# Altium schematic symbol library STM32F746_AppBoard.SCHLIB: 66 symbols
Pins are listed as number, name and electrical type; pins without a type are passive.

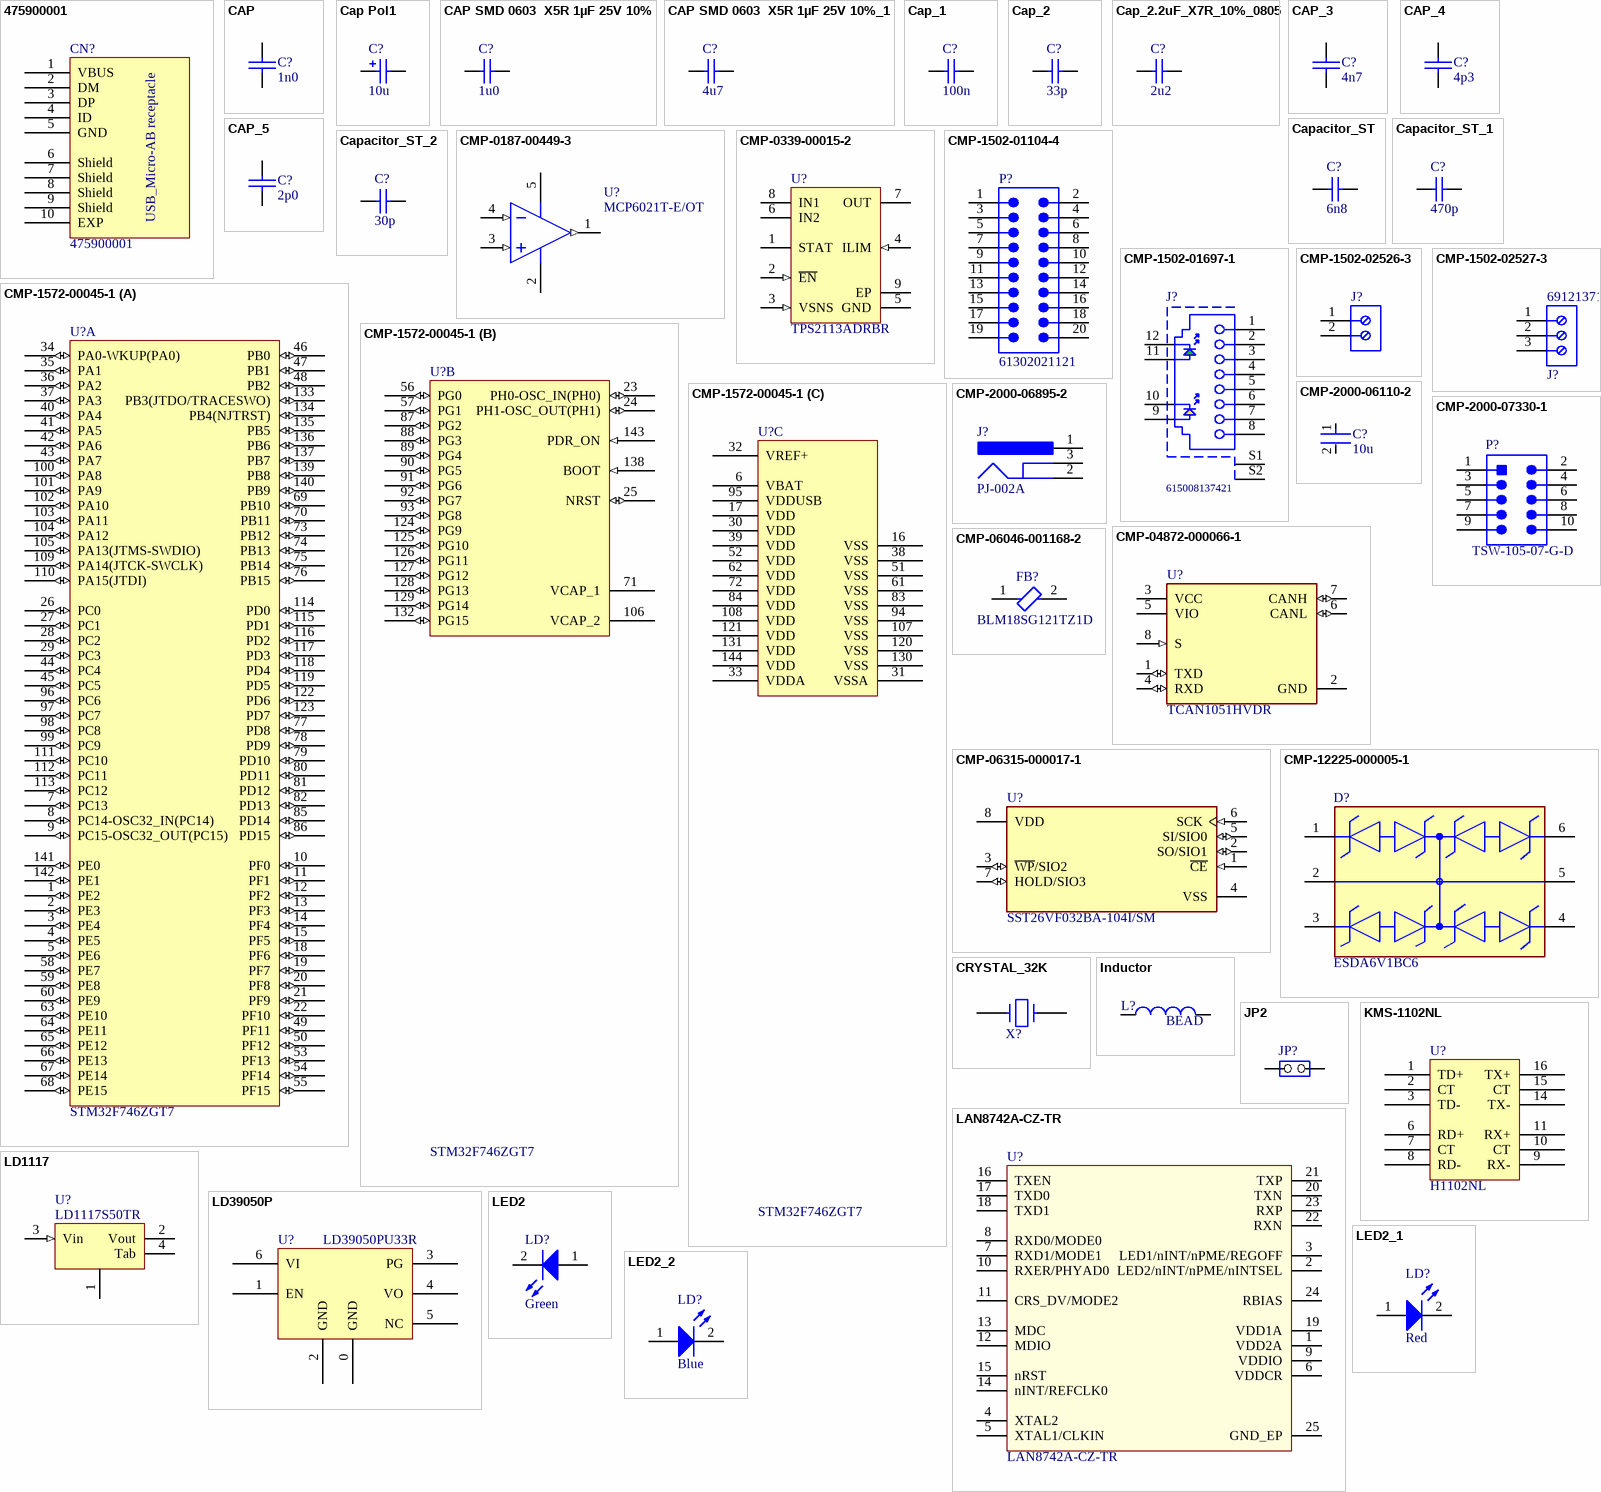
[diagram p0: symbols 475900001 to LED2_2]

## 475900001
designator CN?
footprint Model Name (Footprint not found)
footprint MOLEX_47590001 (Footprint not found)
pins: 1 VBUS, 2 DM, 3 DP, 4 ID, 5 GND, 6 Shield, 7 Shield, 8 Shield, 9 Shield, 10 EXP
text: USB_Micro-AB receptacle

## CAP
designator C?, comment 1n0
Capacitor; Voltage: 50V; Dielectric: C0G; Value: 1n0
footprint 0603 (Footprint not found)
footprint 0603C
pins: 1, 2
2 alternate drawings of the same symbol

## Cap Pol1
designator C?, comment 10u
Tantalum Capacitor; Voltage Rating: 25V; Published: 8-Jun-2000; Revision: July-2002: Re-released for DXP Platform.; Publisher: Altium Limited; Value: 10u
simulation model CAP (Capacitor)
signal-integrity model C200M
footprint 3528 (Footprint not found)
footprint TAN-B
footprint TAN-A
pins: 1, 2

## CAP SMD 0603  X5R 1µF 25V 10%
designator C?, comment 1u0
Capacitor; Voltage Rating: 25V; Tolerance: 10%; Dielectric: X5R; Manufacturer: *; Manufacturer P/N: *; Order code Farnell: 1288202RL; Value: 1u0; Power: *; Temperature  Factor: *; Temperature Max: +125°C; Temperature Min: -55°C; STS Code: *
footprint 0603C (Footprint not found)
3D model 0603_0_0000_R (PCB3D Model)
simulation model Capacitor
signal-integrity model Capacitor
pins: 1, 2

## CAP SMD 0603  X5R 1µF 25V 10%_1
designator C?, comment 4u7
Capacitor; Rated voltage: 25V; Tolerance: 10%; Dielectric: X5R; Manufacturer: *; Manufacturer P/N: *; Order code Farnell: 1288202RL; Value: 4u7; Power: *; Temperature  Factor: *; Temperature Max: +125°C; Temperature Min: -55°C; STS Code: *
footprint 0603C (Footprint not found)
3D model 0603_0_0000_R (PCB3D Model)
simulation model Capacitor
signal-integrity model Capacitor
pins: 1, 2

## Cap_1
designator C?, comment 100n
Capacitor; Dielectric: X7R; Published: 8-Jun-2000; Revision: July-2002: Re-released for DXP Platform.; Publisher: Altium Limited; Value: 100n
simulation model CAP (Capacitor)
signal-integrity model Cap
footprint 0603 (Footprint not found)
footprint 0603C (Footprint not found)
pins: 1, 2

## Cap_2
designator C?, comment 33p
Capacitor; Dielectric: C0G; Published: 8-Jun-2000; Revision: July-2002: Re-released for DXP Platform.; Publisher: Altium Limited; Value: 33p; Supplier 1: DigiKey; Supplier Part Number 1: 720-1913-1-ND
simulation model CAP (Capacitor)
signal-integrity model Cap
footprint 0603 (Footprint not found)
footprint 0603C (Footprint not found)
pins: 1, 2

## Cap_2.2uF_X7R_10%_0805
designator C?, comment 2u2
Capacitor,2.2uF,16V, X7R,10%,0805,YAGEO; Manuf_Part_1: CC0805KKX7R7BB225; Revision: July-2002: Re-released for DXP Platform.; Value: 2u2; Order: CC0805KKX7R7BB225; Manuf_1: YAGEO; Dielectric: X7R
simulation model CAP (Capacitor)
signal-integrity model Cap
footprint 0805C
footprint TAN-A
pins: 1, 2

## CAP_3
designator C?, comment 4n7
Capacitor; Dielectric: C0G; Value: 4n7; Supplier 1: Arrow Electronics; Supplier Part Number 1: C0603C472K5GACTU
footprint 0603 (Footprint not found)
footprint 0603C
pins: 1, 2
2 alternate drawings of the same symbol

## CAP_4
designator C?, comment 4p3
Capacitor; Dielectric: C0G; Value: 4p3
footprint 0603 (Footprint not found)
footprint 0603C
pins: 1, 2
2 alternate drawings of the same symbol

## CAP_5
designator C?, comment 2p0
Capacitor; Dielectric: C0G; Value: 2p0
footprint 0603 (Footprint not found)
footprint 0603C
pins: 1, 2

## Capacitor_ST
designator C?, comment 6n8
Capacitor 0402 / 0603 / 0805; Voltage Rating: 50 V; Dielectric: C0G; Revision: July-2002: Re-released for DXP Platform.; Value: 6n8
simulation model CAP (Capacitor)
signal-integrity model Cap
footprint 0603C
footprint 0402C
footprint 0805C (Footprint not found)
pins: 1, 2

## Capacitor_ST_1
designator C?, comment 470p
Capacitor 0402 / 0603 / 0805; Revision: July-2002: Re-released for DXP Platform.; Value: 470p
simulation model CAP (Capacitor)
signal-integrity model Cap
footprint 0603C
footprint 0402C
footprint 0805C (Footprint not found)
pins: 1, 2

## Capacitor_ST_2
designator C?, comment 30p
Capacitor 0402 / 0603 / 0805; Revision: July-2002: Re-released for DXP Platform.; Value: 30p
simulation model CAP (Capacitor)
signal-integrity model Cap
footprint 0603C
footprint 0402C
footprint 0805C (Footprint not found)
pins: 1, 2

## CMP-0187-00449-3
designator U?, comment MCP6021T-E/OT
None; Nominal Supply Current: 1mA; Gain Bandwidth Product: 10MHz; Input Bias Current: 1pA; Max Supply Voltage: 5.5V; Min Input Voltage: 2.5V; Voltage Gain: 110dB; Number of Circuits: 1; Slew Rate: 7V/µs; Input Offset Voltage (Vos): 250uV; Power Supply Rejection Ratio (PSRR): 74dB; Input Offset Voltage-Max: 500uV; Output Current per Channel: 30mA; Output Current: 22mA; Common Mode Rejection Ratio: 70dB; Max Frequency: 10kHz; Amplifier Type: GENERAL PURPOSE; Contact Plating: Tin; Number of Pins: 5; Operating Supply Current: 1mA; RoHS Compliant: Yes; Mount: Surface Mount; Number of Amplifiers: 1; Case/Package: SOT-23; Min Supply Voltage: 2.5V; Radiation Hardening: No; Height: 0.051inch; Max Input Voltage: 5.5V; Min Operating Temperature: -40°C; Max Operating Temperature: 125°C; Number of Channels: 1; Package Quantity: 3000; Unity Gain Bandwidth Product: 10MHz; Length: 0.122inch; Width: 0.071inch; Number of Elements: 1; Bandwidth: 10MHz; Lead Free: Lead Free; Packaging: Tape and Reel; Technology: CMOS; Supply Current: 1mA; REACH SVHC: No SVHC
footprint SOT-23-OT5_N (SOT23, 5-Leads, Body 2.9x1.6mm, Pitch 0.95mm, Lead Span 2.7mm, IPC Medium Density)
footprint SOT-23-OT5_L (SOT23, 5-Leads, Body 2.9x1.6mm, Pitch 0.95mm, Lead Span 2.7mm, IPC High Density)
footprint SOT-23-OT5_M (SOT23, 5-Leads, Body 2.9x1.6mm, Pitch 0.95mm, Lead Span 2.7mm, IPC Low Density)
pins: 1 VOUT (out), 2 VSS (power), 3 VIN+ (in), 4 VIN- (in), 5 VDD (power)

## CMP-0339-00015-2
designator U?, comment TPS2113ADRBR
Dual In / Single Out Autoswitching Power Mux, 2.8 to 5.5 V, -40 to 85 degC, 9-pin SON (DRB), Green (RoHS & no Sb/Br); Manufacturer: Texas Instruments; IN1, IN2 Input Voltage(Min)(V): 2.8; SubFamily: Power Multiplexer (MUX); IN1 rDS(on)(Typ)(mOhm): 84; IN2 rDS(on)(Typ)(Ohms): 0.084; Number of Inputs: 2; IN1, IN2 Input Voltage(Max)(V): 5.5; IN2 Output Current(Max)(A): 1.25; PackageVersion: revK, Jun-2012; PackageDescription: 8-Pin Plastic Small Outline No-Lead, 3 x 3 x 1 mm Body, 0.65 mm Pitch, Exposed Pad; ComponentLink1Description: Datasheet; ComponentLink1URL: http://www.ti.com/general/docs/lit/getliterature.tsp?genericPartNumber=TPS2113A&fileType=pdf; DatasheetVersion: SBVS045C; Eco-Plan: Green (RoHS & no Sb/Br); PartNumber: TPS2113ADRBR; Mounting Technology: Surface Mount; PackageReference: DRB0008B; IN1 Output Current(Max)(A): 1.25
footprint DRB0008B_V (SON, 8-Leads, Body 3x3mm, Pitch 0.65mm, Thermal Pad 2.4x1.65mm, TI Recommended)
pins: 1 STAT (hiz) "STAT is an open-drain output that is Hi-Z if the IN2 switch is ON. STAT pulls low if the IN1 switch is ON or if OUT is Hi-Z (that is, E\N\ is equal to logic '0')", 2 ~{EN} (in) "TTL- and CMOS-compatible input with a 1-uA pull-up. The Truth Table illustrates the functionality of E\N\.", 3 VSNS (in) "An internal power FET connects OUT to IN1 if the VSNS voltage is greater than 0.8 V.Otherwise, the FET connects OUT to the higher of IN1 and IN2. The Truth Table illustrates the functionality of VSNS.", 4 ILIM (in) "A resistor (RILIM) from ILIM to GND sets the current limit (IL) to 250/RILIM and 500/RILIM for the TPS2113A, respectively.", 5 GND (power) "Ground", 6 IN2 (power) "Secondary power switch input. The IN2 switch can be enabled only if the IN2 supply is above the UVLO threshold and at least one supply exceeds the internal VDD UVLO.", 7 OUT (power) "Power switch output", 8 IN1 (power) "Primary power switch input. The IN1 switch can be enabled only if the IN1 supply is above the UVLO threshold and at least one supply exceeds the internal VDD UVLO.", 9 EP (power) "Connect to GND. Must be connected to large copper area in order to meet stated package dissipation ratings."

## CMP-1502-01104-4
designator P?, comment 61302021121
THT Vertical Pin Header WR-PHD, Pitch 2.54 mm, Dual Row, 20 pins; Connector Type: Male Pin; Current Rating: 3A; Number of Contacts: 20; Gender: Male; Contact Resistance: 20mΩ; Pitch: 2.54mm; Operating Supply Voltage: 250V; Color: Black; Contact Mating Length: 5.9944mm; Termination: Solder; Packaging: Bulk; Lead Pitch: 2.54mm; Height: 8.89mm; Orientation: Vertical; Min Operating Temperature: -40°C; Max Operating Temperature: 105°C; Number of Positions: 20; Mount: Through Hole; RoHS: Compliant; Number of Pins: 20; Voltage Rating: 250V; Number of Rows: 2; Contact Plating: Gold; Row Spacing: 2.54mm; Contact Material: Gold
footprint 61302021121 (THT Vertical Pin Header WR-PHD, Pitch 2.54 mm, Dual Row, 20 pins)
pins: 1, 2, 3, 4, 5, 6, 7, 8, 9, 10, 11, 12, 13, 14, 15, 16, 17, 18, 19, 20

## CMP-1502-01697-1
designator J?, comment 615008137421
Modular Jack WR-MJ, Tab Up, Shielded, with LED and EMI Panel Finger, Horizontal Entry, THT, 8P8C; Manufacturer: Wurth Elektronik; Compliance: Leadfree/RoHS; Withstanding Voltage: 1000VAC; Port: 1x1; Contact Resistance: 20mOhm; Rated Current: 1.5A; Working Voltage: 120VAC; Manufacturer URL: http://www.we-online.de; Mounting Technology: THT; Entrance: Horizontal; Datasheet URL: https://katalog.we-online.de/em/datasheet/615008137421.pdf; Packaging: Tray; Package Reference: 615008137421; Publisher: WurthElektronik; Operating Temperature: -40to85degC; Part Number: 615008137421; Pin Number: 8P8C
footprint 615008137421 (Modular Jack Horizontal Shielded with LED and EMI Panel Finger 8P8C Tab Up)
pins: 1, 2, 3, 4, 5, 6, 7, 8, 9, 10, 11, 12, S1, S2

## CMP-1502-02526-3
designator J?, comment 691213710002  (value not drawn)
213 Series 5MM Pitch Straight, Pcb Terminal Block, Through Hole, 2 Way; Voltage: 300V; Number of Positions Per Level: 2; Pitch: 5.0038mm; Current: 10A; Plating: Brass, Steel; Wire Gauge (Min): 16AWG; Wire Gauge (Max): 26AWG; Stripping Length: -7mm; Number of Levels: 1; RoHS: Compliant; Contact Plating: Tin; Height: 10mm; Contact Material: Brass; Width: 10.6mm; Packaging: Box; Housing Material: Nylon; Mount: Through Hole; Max Operating Temperature: 105°C; Color: Green; Lead Pitch: 5mm; Voltage Rating: 300V; Min Operating Temperature: -40°C; Current Rating: 10A; Termination: Screw; Number of Pins: 2; Number of Contacts: 2; Length: 8.3mm; Wire/Cable Gauge: 26AWG
footprint 691213710002
pins: 1, 2

## CMP-1502-02527-3
designator J?, comment 691213710003
213 Series 5MM Pitch Straight, Pcb Terminal Block, Through Hole, 3 Way; Stripping Length: -7mm; Wire Gauge (Max): 26AWG; Pitch: 5.0038mm; Voltage: 300V; Current: 10A; Wire/Cable Gauge: 16AWG; Connector Type: PCB, Terminal Block; Plating: Brass, Steel; Number of Positions Per Level: 3; Number of Levels: 1; Height: 10mm; Housing Material: Nylon; Termination: Screw; RoHS: Compliant; Max Operating Temperature: 105°C; Contact Plating: Tin; Contact Material: Brass; Number of Pins: 3; Color: Green; Length: 8.3mm; REACH SVHC: Unknown; Packaging: Box; Wire Gauge (Min): 16AWG; Min Operating Temperature: -40°C; Lead Pitch: 5mm; Number of Contacts: 3; Width: 15.6mm; Mount: Through Hole
footprint 691213710003
pins: 1, 2, 3

## CMP-1572-00045-1
designator U?, comment STM32F746ZGT7
ARM Cortex-M4 32-bit MCU+FPU, 1024 KB Flash, 320 KB Internal RAM, 114 I/Os, 144-Pin LQFP, -40 to 105 degC, Tray; I/Os (High Current): 114; FLASH Size (Prog) (kB): 1024; Core: ARM Cortex-M7; Operating Frequency(F) (Processor speed) (MHz): 216; D/A Converter: 2; Internal RAM Size (kB): 320; Supply Voltage(Vcc) min (V): 1.7; DatasheetVersion: Rev. 2; ComponentLink1Description: Manufacturer URL; ComponentLink1URL: http://www.st.com/; ComponentLink2URL: http://www.st.com/st-web-ui/static/active/en/resource/technical/document/datasheet/DM00166116.pdf; Packing: Tray; Package Description: 144-Pin Low Profile Quad Flat Package, Body 20 x 20 mm, Pitch 0.5 mm; ComponentLink2Description: Datasheet; Mounting Technology: Surface Mount; Package Reference: LQFP144
footprint STM-LQFP144_M (Thin QFP, 144-Leads, Body 20x20mm, Pitch 0.5mm, IPC Low Density)
footprint STM-LQFP144_N (Thin QFP, 144-Leads, Body 20x20mm, Pitch 0.5mm, IPC Medium Density)
footprint STM-LQFP144_L (Thin QFP, 144-Leads, Body 20x20mm, Pitch 0.5mm, IPC High Density)
part A pins: 1 PE2 (io) "PE2/TRACECLK,SPI4_SCK,SAI1_MCLK_A,QUADSPI_BK1_IO2,ETH_MII_TXD3,FMC_A23,EVENTOUT", 2 PE3 (io) "PE3/TRACED0,SAI1_SD_B,FMC_A19,EVENTOUT", 3 PE4 (io) "PE4/TRACED1,SPI4_NSS,SAI1_FS_A,FMC_A20,DCMI_D4,LCD_B0,EVENTOUT", 4 PE5 (io) "PE5/TRACED2,TIM9_CH1,SPI4_MISO,SAI1_SCK_A,FMC_A21,DCMI_D6,LCD_G0,EVENTOUT", 5 PE6 (io) "PE6/TRACED3,TIM1_BKIN2,TIM9_CH2,SPI4_MOSI,SAI1_SD_A,SAI2_MCK_B,FMC_A22,DCMI_D7,LCD_G1,EVENTOUT", 7 PC13 (io) "PC13/EVENTOUT/RTC_TAMP1/RTC_TS/RTC_OUT,WKUP4", 8 PC14-OSC32_IN(PC14) (io) "PC14/EVENTOUT/OSC32_IN", 9 PC15-OSC32_OUT(PC15) (io) "PC15/EVENTOUT/OSC32_OUT", 10 PF0 (io) "PF0/I2C2_SDA,FMC_A0,EVENTOUT", 11 PF1 (io) "PF1/I2C2_SCL,FMC_A1,EVENTOUT", 12 PF2 (io) "PF2/I2C2_SMBA,FMC_A2,EVENTOUT", 13 PF3 (io) "PF3/FMC_A3,EVENTOUT/ADC3_IN9", 14 PF4 (io) "PF4/FMC_A4,EVENTOUT/ADC3_IN14", 15 PF5 (io) "PF5/FMC_A5,EVENTOUT/ADC3_IN15", 18 PF6 (io) "PF6/TIM10_CH1,SPI5_NSS,SAI1_SD_B,UART7_RX,QUADSPI_BK1_IO3,EVENTOUT/ADC3_IN4", 19 PF7 (io) "PF7/TIM11_CH1,SPI5_SCK,SAI1_MCLK_B,UART7_TX,QUADSPI_BK1_IO2,EVENTOUT/ADC3_IN5", 20 PF8 (io) "PF8/SPI5_MISO,SAI1_SCK_B,UART7_RTS,TIM13_CH1,QUADSPI_BK1_IO0,EVENTOUT/ADC3_IN6", 21 PF9 (io) "PF9/SPI5_MOSI,SAI1_FS_B,UART7_CTS,TIM14_CH1,QUADSPI_BK1_IO1,EVENTOUT/ADC3_IN7", 22 PF10 (io) "PF10/DCMI_D11,LCD_DE,EVENTOUT/ADC3_IN8", 26 PC0 (io) "PC0/SAI2_FS_B,OTG_HS_ULPI_STP,FMC_SDNWE,LCD_R5,EVENTOUT/ADC123_IN10", 27 PC1 (io) "PC1/TRACED0,SPI2_MOSI/I2S2_SD,SAI1_SD_A,ETH_MDC,EVENTOUT/ADC123_IN11,RTC_TAMP3,WKUP3", 28 PC2 (io) "PC2/SPI2_MISO,OTG_HS_ULPI_DIR,ETH_MII_TXD2,FMC_SDNE0,EVENTOUT/ADC123_IN12", 29 PC3 (io) "PC3/SPI2_MOSI/I2S2_SD,OTG_HS_ULPI_NXT,ETH_MII_TX_CLK,FMC_SDCKE0,EVENTOUT/ADC123_IN13", 34 PA0-WKUP(PA0) (io) "PA0-WKUP(PA0)/TIM2_CH1/TIM2_ETR,TIM5_CH1,TIM8_ETR,USART2_CTS,UART4_TX,SAI2_SD_B,ETH_MII_CRS,EVENTOUT/ADC123_IN0,WKUP1", 35 PA1 (io) "PA1/TIM2_CH2,TIM5_CH2,USART2_RTS,UART4_RX,QUADSPI_BK1_IO3,SAI2_MCK_B,ETH_MII_RX_CLK/ETH_RMII_REF_CLK,LCD_R2,EVENTOUT/ADC123_IN1", 36 PA2 (io) "PA2/TIM2_CH3,TIM5_CH3,TIM9_CH1,USART2_TX,SAI2_SCK_B,ETH_MDIO,LCD_R1,EVENTOUT/ADC123_IN2,WKUP2", 37 PA3 (io) "PA3/TIM2_CH4,TIM5_CH4,TIM9_CH2,USART2_RX,OTG_HS_ULPI_D0,ETH_MII_COL,LCD_B5,EVENTOUT/ADC123_IN3", 40 PA4 (io) "PA4/SPI1_NSS/I2S1_WS,SPI3_NSS/I2S3_WS,USART2_CK,OTG_HS_SOF,DCMI_HSYNC,LCD_VSYNC,EVENTOUT/ADC12_IN4,DAC_OUT1", 41 PA5 (io) "PA5/TIM2_CH1/TIM2_ETR,TIM8_CH1N,SPI1_SCK/I2S1_CK,OTG_HS_ULPI_CK,LCD_R4,EVENTOUT/ADC12_IN5,DAC_OUT2", 42 PA6 (io) "PA6/TIM1_BKIN,TIM3_CH1,TIM8_BKIN,SPI1_MISO,TIM13_CH1,DCMI_PIXCLK,LCD_G2,EVENTOUT/ADC12_IN6", 43 PA7 (io) "PA7/TIM1_CH1N,TIM3_CH2,TIM8_CH1N,SPI1_MOSI/I2S1_SD,TIM14_CH1,ETH_MII_RX_DV/ETH_RMII_CRS_DV,FMC_SDNWE,EVENTOUT/ADC12_IN7", 44 PC4 (io) "PC4/I2S1_MCK,SPDIFRX_IN2,ETH_MII_RXD0/ETH_RMII_RXD0,FMC_SDNE0,EVENTOUT/ADC12_IN14", 45 PC5 (io) "PC5/SPDIFRX_IN3,ETH_MII_RXD1/ETH_RMII_RXD1,FMC_SDCKE0,EVENTOUT/ADC12_IN15", 46 PB0 (io) "PB0/TIM1_CH2N,TIM3_CH3,TIM8_CH2N,UART4_CTS,LCD_R3,OTG_HS_ULPI_D1,ETH_MII_RXD2,EVENTOUT/ADC12_IN8", 47 PB1 (io) "PB1/TIM1_CH3N,TIM3_CH4,TIM8_CH3N,LCD_R6,OTG_HS_ULPI_D2,ETH_MII_RXD3,EVENTOUT/ADC12_IN9", 48 PB2 (io) "PB2/SAI1_SD_A,SPI3_MOSI/I2S3_SD,QUADSPI_CLK,EVENTOUT", 49 PF11 (io) "PF11/SPI5_MOSI,SAI2_SD_B,FMC_SDNRAS,DCMI_D12,EVENTOUT", 50 PF12 (io) "PF12/FMC_A6,EVENTOUT", 53 PF13 (io) "PF13/I2C4_SMBA,FMC_A7,EVENTOUT", 54 PF14 (io) "PF14/I2C4_SCL,FMC_A8,EVENTOUT", 55 PF15 (io) "PF15/I2C4_SDA,FMC_A9,EVENTOUT", 58 PE7 (io) "PE7/TIM1_ETR,UART7_RX,QUADSPI_BK2_IO0,FMC_D4,EVENTOUT", 59 PE8 (io) "PE8/TIM1_CH1N,UART7_TX,QUADSPI_BK2_IO1,FMC_D5,EVENTOUT", 60 PE9 (io) "PE9/TIM1_CH1,UART7_RTS,QUADSPI_BK2_IO2,FMC_D6,EVENTOUT", 63 PE10 (io) "PE10/TIM1_CH2N,UART7_CTS,QUADSPI_BK2_IO3,FMC_D7,EVENTOUT", 64 PE11 (io) "PE11/TIM1_CH2,SPI4_NSS,SAI2_SD_B,FMC_D8,LCD_G3,EVENTOUT", 65 PE12 (io) "PE12/TIM1_CH3N,SPI4_SCK,SAI2_SCK_B,FMC_D9,LCD_B4,EVENTOUT", 66 PE13 (io) "PE13/TIM1_CH3,SPI4_MISO,SAI2_FS_B,FMC_D10,LCD_DE,EVENTOUT", 67 PE14 (io) "PE14/TIM1_CH4,SPI4_MOSI,SAI2_MCK_B,FMC_D11,LCD_CLK,EVENTOUT", 68 PE15 (io) "PE15/TIM1_BKIN,FMC_D12,LCD_R7,EVENTOUT", 69 PB10 (io) "PB10/TIM2_CH3,I2C2_SCL,SPI2_SCK/I2S2_CK,USART3_TX,OTG_HS_ULPI_D3,ETH_MII_RX_ER,LCD_G4,EVENTOUT", 70 PB11 (io) "PB11/TIM2_CH4,I2C2_SDA,USART3_RX,OTG_HS_ULPI_D4,ETH_MII_TX_EN/ETH_RMII_TX_EN,LCD_G5,EVENTOUT", 73 PB12 (io) "PB12/TIM1_BKIN,I2C2_SMBA,SPI2_NSS/I2S2_WS,USART3_CK,CAN2_RX,OTG_HS_ULPI_D5,ETH_MII_TXD0/ETH_RMII_TXD0,OTG_HS_ID,EVENTOUT", 74 PB13 (io) "PB13/TIM1_CH1N,SPI2_SCK/I2S2_CK,USART3_CTS,CAN2_TX,OTG_HS_ULPI_D6,ETH_MII_TXD1/ETH_RMII_TXD1,EVENTOUT/OTG_HS_VBUS", 75 PB14 (io) "PB14/TIM1_CH2N,TIM8_CH2N,SPI2_MISO,USART3_RTS,TIM12_CH1,OTG_HS_DM,EVENTOUT", 76 PB15 (io) "PB15/RTC_REFIN,TIM1_CH3N,TIM8_CH3N,SPI2_MOSI/I2S2_SD,TIM12_CH2,OTG_HS_DP,EVENTOUT", 77 PD8 (io) "PD8/USART3_TX,SPDIFRX_IN11,FMC_D13,EVENTOUT", 78 PD9 (io) "PD9/USART3_RX,FMC_D14,EVENTOUT", 79 PD10 (io) "PD10/USART3_CK,FMC_D15,LCD_B3,EVENTOUT", 80 PD11 (io) "PD11/I2C4_SMBA,USART3_CTS,QUADSPI_BK1_IO0,SAI2_SD_A,FMC_A16/FMC_CLE,EVENTOUT", 81 PD12 (io) "PD12/TIM4_CH1,LPTIM1_IN1,I2C4_SCL,USART3_RTS,QUADSPI_BK1_IO1,SAI2_FS_A,FMC_A17/FMC_ALE,EVENTOUT", 82 PD13 (io) "PD13/TIM4_CH2,LPTIM1_OUT,I2C4_SDA,QUADSPI_BK1_IO3,SAI2_SCK_A,FMC_A18,EVENTOUT", 85 PD14 (io) "PD14/TIM4_CH3,UART8_CTS,FMC_D0,EVENTOUT", 86 PD15 (io) "PD15/TIM4_CH4,UART8_RTS,FMC_D1,EVENTOUT", 96 PC6 (io) "PC6/TIM3_CH1,TIM8_CH1,I2S2_MCK,USART6_TX,SDMMC1_D6,DCMI_D0,LCD_HSYNC,EVENTOUT", 97 PC7 (io) "PC7/TIM3_CH2,TIM8_CH2,I2S3_MCK,USART6_RX,SDMMC1_D7,DCMI_D1,LCD_G6,EVENTOUT", 98 PC8 (io) "PC8/TRACED1,TIM3_CH3,TIM8_CH3,UART5_RTS,USART6_CK,SDMMC1_D0,DCMI_D2,EVENTOUT", 99 PC9 (io) "PC9/MCO2,TIM3_CH4,TIM8_CH4,I2C3_SDA,I2S_CKIN,UART5_CTS,QUADSPI_BK1_IO0,SDMMC1_D1,DCMI_D3,EVENTOUT", 100 PA8 (io) "PA8/MCO1,TIM1_CH1,TIM8_BKIN2,I2C3_SCL,USART1_CK,OTG_FS_SOF,LCD_R6,EVENTOUT", 101 PA9 (io) "PA9/TIM1_CH2,I2C3_SMBA,SPI2_SCK/I2S2_CK,USART1_TX,DCMI_D0,EVENTOUT/OTG_FS_VBUS", 102 PA10 (io) "PA10/TIM1_CH3,USART1_RX,OTG_FS_ID,DCMI_D1,EVENTOUT", 103 PA11 (io) "PA11/TIM1_CH4,USART1_CTS,CAN1_RX,OTG_FS_DM,LCD_R4,EVENTOUT", 104 PA12 (io) "PA12/TIM1_ETR,USART1_RTS,SAI2_FS_B,CAN1_TX,OTG_FS_DP,LCD_R5,EVENTOUT", 105 PA13(JTMS-SWDIO) (io) "PA13/JTMS-SWDIO,EVENTOUT", 109 PA14(JTCK-SWCLK) (io) "PA14/JTCK-SWCLK,EVENTOUT", 110 PA15(JTDI) (io) "PA15/JTDI,TIM2_CH1/TIM2_ETR,HDMI-CEC,SPI1_NSS/I2S1_WS,SPI3_NSS/I2S3_WS,UART4_RTS,EVENTOUT", 111 PC10 (io) "PC10/SPI3_SCK/I2S3_CK,USART3_TX,UART4_TX,QUADSPI_BK1_IO1,SDMMC1_D2,DCMI_D8,LCD_R2,EVENTOUT", 112 PC11 (io) "PC11/SPI3_MISO,USART3_RX,UART4_RX,QUADSPI_BK2_NCS,SDMMC1_D3,DCMI_D4,EVENTOUT", 113 PC12 (io) "PC12/TRACED3,SPI3_MOSI/I2S3_SD,USART3_CK,UART5_TX,SDMMC1_CK,DCMI_D9,EVENTOUT", 114 PD0 (io) "PD0/CAN1_RX,FMC_D2,EVENTOUT", 115 PD1 (io) "PD1/CAN1_TX,FMC_D3,EVENTOUT", 116 PD2 (io) "PD2/TRACED2,TIM3_ETR,UART5_RX,SDMMC1_CMD,DCMI_D11,EVENTOUT", 117 PD3 (io) "PD3/SPI2_SCK/I2S2_CK,USART2_CTS,FMC_CLK,DCMI_D5,LCD_G7,EVENTOUT", 118 PD4 (io) "PD4/USART2_RTS,FMC_NOE,EVENTOUT", 119 PD5 (io) "PD5/USART2_TX,FMC_NWE,EVENTOUT", 122 PD6 (io) "PD6/SPI3_MOSI/I2S3_SD,SAI1_SD_A,USART2_RX,FMC_NWAIT,DCMI_D10,LCD_B2,EVENTOUT", 123 PD7 (io) "PD7/USART2_CK,SPDIFRX_IN0,FMC_NE1,EVENTOUT", 133 PB3(JTDO/TRACESWO) (io) "PB3/JTDO/TRACESWO,TIM2_CH2,SPI1_SCK/I2S1_CK,SPI3_SCK/I2S3_CK,EVENTOUT", 134 PB4(NJTRST) (io) "PB4/NJTRST,TIM3_CH1,SPI1_MISO,SPI3_MISO,SPI2_NSS/I2S2_WS,EVENTOUT", 135 PB5 (io) "PB5/TIM3_CH2,I2C1_SMBA,SPI1_MOSI/I2S1_SD,SPI3_MOSI/I2S3_SD,CAN2_RX,OTG_HS_ULPI_D7,ETH_PPS_OUT,FMC_SDCKE1,DCMI_D10,EVENTOUT", 136 PB6 (io) "PB6/TIM4_CH1,HDMI-CEC,I2C1_SCL,USART1_TX,CAN2_TX,QUADSPI_BK1_NCS,FMC_SDNE1,DCMI_D5,EVENTOUT", 137 PB7 (io) "PB7/TIM4_CH2,I2C1_SDA,USART1_RX,FMC_NL,DCMI_VSYNC,EVENTOUT", 139 PB8 (io) "PB8/TIM4_CH3,TIM10_CH1,I2C1_SCL,CAN1_RX,ETH_MII_TXD3,SDMMC1_D4,DCMI_D6,LCD_B6,EVENTOUT", 140 PB9 (io) "PB9/TIM4_CH4,TIM11_CH1,I2C1_SDA,SPI2_NSS/I2S2_WS,CAN1_TX,SDMMC1_D5,DCMI_D7,LCD_B7,EVENTOUT", 141 PE0 (io) "PE0/TIM4_ETR,LPTIM1_ETR,UART8_RX,SAI2_MCK_A,FMC_NBL0,DCMI_D2,EVENTOUT", 142 PE1 (io) "PE1/LPTIM1_IN2,UART8_TX,FMC_NBL1,DCMI_D3,EVENTOUT"
part B pins: 23 PH0-OSC_IN(PH0) (io) "PH0/EVENTOUT/OSC_IN", 24 PH1-OSC_OUT(PH1) (io) "PH1/EVENTOUT/OSC_OUT", 25 NRST (io), 56 PG0 (io) "PG0/FMC_A10,EVENTOUT", 57 PG1 (io) "PG1/FMC_A11,EVENTOUT", 71 VCAP_1, 87 PG2 (io) "PG2/FMC_A12,EVENTOUT", 88 PG3 (io) "PG3/FMC_A13,EVENTOUT", 89 PG4 (io) "PG4/FMC_A14/FMC_BA0,EVENTOUT", 90 PG5 (io) "PG5/FMC_A15/FMC_BA1,EVENTOUT", 91 PG6 (io) "PG6/DCMI_D12,LCD_R7,EVENTOUT", 92 PG7 (io) "PG7/USART6_CK,FMC_INT,DCMI_D13,LCD_CLK,EVENTOUT", 93 PG8 (io) "PG8/SPI6_NSS,SPDIFRX_IN2,USART6_RTS,ETH_PPS_OUT,FMC_SDCLK,EVENTOUT", 106 VCAP_2, 124 PG9 (io) "PG9/SPDIFRX_IN3,USART6_RX,QUADSPI_BK2_IO2,SAI2_FS_B,FMC_NE2/FMC_NCE,DCMI_VSYNC,EVENTOUT", 125 PG10 (io) "PG10/LCD_G3,SAI2_SD_B,FMC_NE3,DCMI_D2,LCD_B2,EVENTOUT", 126 PG11 (io) "PG11/SPDIFRX_IN0,ETH_MII_TX_EN/ETH_RMII_TX_EN,DCMI_D3,LCD_B3,EVENTOUT", 127 PG12 (io) "PG12/LPTIM1_IN1,SPI6_MISO,SPDIFRX_IN1,USART6_RTS,LCD_B4,FMC_NE4,LCD_B1,EVENTOUT", 128 PG13 (io) "PG13/TRACED0,LPTIM1_OUT,SPI6_SCK,USART6_CTS,ETH_MII_TXD0/ETH_RMII_TXD0,FMC_A24,LCD_R0,EVENTOUT", 129 PG14 (io) "PG14/TRACED1,LPTIM1_ETR,SPI6_MOSI,USART6_TX,QUADSPI_BK2_IO3,ETH_MII_TXD1/ETH_RMII_TXD1,FMC_A25,LCD_B0,EVENTOUT", 132 PG15 (io) "PG15/USART6_CTS,FMC_SDNCAS,DCMI_D13,EVENTOUT", 138 BOOT (in) "BOOT/VPP", 143 PDR_ON (in)
part C pins: 6 VBAT (power), 16 VSS (power), 17 VDD (power), 30 VDD (power), 31 VSSA (power), 32 VREF+ (power), 33 VDDA (power), 38 VSS (power), 39 VDD (power), 51 VSS (power), 52 VDD (power), 61 VSS (power), 62 VDD (power), 72 VDD (power), 83 VSS (power), 84 VDD (power), 94 VSS (power), 95 VDDUSB (power), 107 VSS (power), 108 VDD (power), 120 VSS (power), 121 VDD (power), 130 VSS (power), 131 VDD (power), 144 VDD (power)

## CMP-2000-06110-2
designator C?, comment 10u
Cap Ceramic 10uF 50V X7R ±10% SMD 1210 +125°C Embossed T/R; Material: Ceramic; Min Operating Temperature: -55°C; Depth: 2.5mm; Radiation Hardening: No; Value: 10u; Packaging: Tape and Reel; Dielectric: X7R; Case Code (Metric): 3225; Height: 2.5mm; Thickness: 0.106inch; Voltage Rating (DC): 50V; Voltage Rating: 50V; Width: 0.098inch; Case Code (Imperial): 1210; Length: 3.2mm; Tolerance: 10%; Lead Free: Lead Free; Package Quantity: 1; Voltage: 50V; Mount: Surface Mount; Case/Package: 1210; Max Operating Temperature: 125°C
footprint FP-CL32-IPC_C
footprint FP-CL32-IPC_B
footprint FP-CL32-IPC_A
pins: 1, 2

## CMP-2000-06895-2
designator J?, comment PJ-002A
Through Hole Right Angle DC Power Jack, 2.5 A, 2 mm Center Pin, 3 Position, -25 to 85 degC, RoHS, Bulk; Manufacturer: CUIInc.; Brand: CUI; Inside Contact Diameter: 2mm; Voltage Rating: 24V; Outside Contact Diameter: 6.5mm; Current Rating: 2.5A; Insulation Resistance: 50MOhms; Contact Gender: Male; Connector Type: DCPowerJack; Datasheet Version: Rev. 1.03, 04/2016; Housing Material: PolybutyleneTerephthalate(PBT); Operating Temperature Range: -25Cto+85C; Termination Style: ThroughHole; Product Category: DCPowerConnectors; Mounting Technology: ThroughHole; Mounting Style: ThroughHole; Factory Pack Quantity: 500; Contact Plating: Nickel; Package Reference: PJ-002A; Mounting Angle: Right; Package Description: 3-Pin Through Hole Device, Body 14.4 x 9 mm, Height 11 mm; Flammability Rating: UL94V-0; Manufacturer URL: http://www.cui.com/; Product: Jacks; Contact Material: Copper; Datasheet URL: http://www.cui.com/product/resource/pj-002a.pdf; RoHS: True
footprint CUI-PJ-002A_V (THD, 3-Leads, Body 14.4x9mm, Height 11mm)
pins: 1, 2, 3

## CMP-2000-07330-1
designator P?, comment TSW-105-07-G-D
Post Terminal Strip Assembly, Pitch 2.54 mm, 2 x 5 Position, Height 8.58 mm, Tail Length 2.54 mm, -55 to 125 degC, RoHS, Bulk; Manufacturer: Samtec-Inc.; Connector Type: Header,Unshrouded; Number of Positions Loaded: All; Pitch: 0.100"(2.54mm); Number of Positions: 10; Package Reference: TSW-105-07-G-D; Mounting Technology: ThroughHole; Datasheet URL: http://suddendocs.samtec.com/prints/tsw-xxx-xx-xxx-x-xx-xxx-mkt.pdf; Termination: Solder; Packaging: Bulk; Number of Rows: 2; Contact Finish: Gold; Mounting Type: ThroughHole; Features: -; Color: Black; Category: Connectors,Interconnects; Family: RectangularConnectors-Headers,MalePins; Manufacturer URL: http://www.samtec.com/; Series: TSW; Fastening Type: -; Package URL: http://suddendocs.samtec.com/prints/tsw-xxx-xx-x-x-xx-xxx-footprint.pdf; Row Spacing: 0.100"(2.54mm); Contact Mating Length: 0.230"(5.84mm); Contact Finish Thickness: 10µin(0.25µm); Contact Type: MalePin; Package Description: Male Header, Pitch 2.54 mm, 2 x 5 Position, Height 8.58 mm, Tail Length 2.54 mm; Datasheet Version: Rev. DO, 08/1988
footprint SMTC-TSW-105-07-G-D_V (THD, 10-Leads, Body 12.7x5.08mm, Pitch 2.54mm)
pins: 1, 2, 3, 4, 5, 6, 7, 8, 9, 10

## CMP-04872-000066-1
designator U?, comment TCAN1051HVDR
IC TRANSCEIVER HALF 1/1 8SOIC; Min Supply Voltage: 4.5V; Max Supply Voltage: 5.5V; Interface: CAN; Min Operating Temperature: -55°C; Packaging: Cut Tape; Case/Package: SOIC; Max Operating Temperature: 125°C; RoHS Compliant: Yes; REACH SVHC: No SVHC; Number of Pins: 8; Lead Free: Lead Free
footprint FP-D0008B-IPC_B
footprint FP-D0008B-MFG
footprint FP-D0008B-IPC_C
footprint FP-D0008B-IPC_A
pins: 1 TXD (io), 2 GND (power), 3 VCC (power), 4 RXD (io), 5 VIO (power), 6 CANL (io), 7 CANH (io), 8 S (in)

## CMP-06046-001168-2
designator FB?, comment BLM18SG121TZ1D
Chip Ferrite Bead, 0603, 120Ω @ 100MHz, 25%, 0.025Ω, 3A; Number of Lines: 1; DC Resistance (DCR): 25mR; Max Current Rating: 3A; Min Operating Temperature: -55°C; Max Operating Temperature: 125°C; Ratings: AEC-Q200; RoHS Compliant: Yes; Case Code (Metric): 1608; Mount: Surface Mount; Case Code (Imperial): 0603; Packaging: Cut Tape; Case/Package: 0603
footprint FP-BLM18-0_15-t0_5-d1_2-MFG
footprint FP-BLM18-0_15-t0_5-d1_2-IPC_C
footprint FP-BLM18-0_15-t0_5-d1_2-IPC_B
footprint FP-BLM18-0_15-t0_5-d1_2-IPC_A
pins: 1, 2

## CMP-06315-000017-1
designator U?, comment SST26VF032BA-104I/SM
IC FLASH 32MBIT SPI/QUAD 8SOIJ; Memory Size: 32Mb; Page Size: 256B; Operating Supply Voltage: 3V; Interface: SPI; Frequency: 104MHz; Access Time: 3ns; Min Supply Voltage: 2.7V; Max Supply Voltage: 3.6V; Memory Type: FLASH; Lead Free: Lead Free; Packaging: Rail/Tube; Length: 5.26mm; Mount: Surface Mount; Series: SST26 SQI®; Height: 1.98mm; Density: 32Mb; Number of Pins: 8; Max Operating Temperature: 85°C; Width: 5.25mm; Case/Package: SOIC; Access Time-Max: 3ns; Min Operating Temperature: -40°C; RoHS Compliant: Yes; REACH SVHC: No SVHC
footprint FP-C04-056-IPC_A
footprint FP-C04-056-IPC_C
footprint FP-C04-056-IPC_B
footprint FP-C04-056-MFG
pins: 1 ~{CE} (in), 2 SO/SIO1 (io), 3 ~{WP}/SIO2 (io), 4 VSS (power), 5 SI/SIO0 (io), 6 SCK (in), 7 HOLD/SIO3 (io), 8 VDD (power)

## CMP-12225-000005-1
designator D?, comment ESDA6V1BC6
TVS DIODE 5V SOT23-6; Manufacturer: STMicroelectronics; Direction: Bidirectional; Capacitance: 20p; Standoff Height: 0mm; Number Of Channels: 4; Peak Pulse Power: 80W; Max Junction Temp: +150°C; Breakdown Voltage: 6.1V; Peak Pulse Current: 3A; Category: Diode; Manufacturer Part Number: ESDA6V1BC6; Digikey Description: TVS DIODE 5V SOT23-6; Temperature Range High: +125°C; Ipc Land Pattern Name: SOT95P280X118-6; Device Class L3: unset; Temperature Range Low: -40°C; ComponentLink2Description: Datasheet; Automotive: No; Device Class L1: Circuit Protection; Mouser Description: TVS Diodes / ESD Suppressors 6.1V 80W Bidirect; Temperature: -40°C to +125°C; Reverse Standoff Voltage: 5V; ComponentLink2URL: https://www.st.com/resource/en/datasheet/esda6v1bc6.pdf; Package: SOT23-6L; Device Class L2: TVS Diodes; Lead Free: Yes; RoHS: TRUE; Octopart: https://octopart.com/esda6v1bc6-stmicroelectronics-347715; Height: 1.45mm
footprint FP-SOT23-6L-MFG
footprint FP-SOT23-6L-IPC_C
footprint FP-SOT23-6L-IPC_B
footprint FP-SOT23-6L-IPC_A
pins: 1, 2, 3, 4, 5, 6

## CRYSTAL_32K
designator X?, comment ABS07-120-32.768KHZ-T  (value not drawn)
Crystal
footprint XTAL1 (Footprint not found)
footprint XTAL_2SM_3R2X1R5 (Footprint not found)
pins: 1, 2
2 alternate drawings of the same symbol

## Inductor
designator L?, comment BEAD
Inductor; Value: 100uH; Published: 8-Jun-2000; Revision: July-2002: Re-released for DXP Platform.; Publisher: Altium Limited
footprint 0603 (Footprint not found)
footprint 0603C
footprint 0603L
pins: 1, 2

## JP2
designator JP?
footprint SIP2/2.54
footprint HDR_1x2_2R54_V_M_S (Footprint not found)
pins: 1 COMMON, 2 NO

## KMS-1102NL
designator U?, comment H1102NL
replaces the KMS-1102NL
footprint Transformer (Footprint not found)
pins: 1 TD+, 2 CT, 3 TD-, 6 RD+, 7 CT, 8 RD-, 9 RX-, 10 CT, 11 RX+, 14 TX-, 15 CT, 16 TX+

## LAN8742A-CZ-TR
designator U?
LAN8742A-CZ-TR - Small Footprint RMII 10/100 Ethernet, Transceiver with HP Auto-MDIX and flexPWR Technology SQFN-24; Manuf_1: MICROCHIP; Order: LAN8742A-CZ-TR; Manuf_Part_1: LAN8742A-CZ-TR; Distrib: MICROCHIP; Supplier 1: Farnell; Supplier Part Number 1: LAN8742A-CZ-TR
footprint QFN24_0R5_4X4 (Footprint not found)
pins: 1 VDD2A, 2 LED2/nINT/nPME/nINTSEL, 3 LED1/nINT/nPME/REGOFF, 4 XTAL2, 5 XTAL1/CLKIN, 6 VDDCR, 7 RXD1/MODE1, 8 RXD0/MODE0, 9 VDDIO, 10 RXER/PHYAD0, 11 CRS_DV/MODE2, 12 MDIO, 13 MDC, 14 nINT/REFCLK0, 15 nRST, 16 TXEN, 17 TXD0, 18 TXD1, 19 VDD1A, 20 TXN, 21 TXP, 22 RXN, 23 RXP, 24 RBIAS, 25 GND_EP

## LD1117
designator U?, comment LD1117S50TR
footprint SOT-223
pins: 1, 2 Vout (power), 3 Vin (in), 4 Tab (power)

## LD39050P
designator U?, comment LD39050PU33R
footprint DFN6
footprint DFN6(3X3)
footprint DFN6_0R95_3x3_TP (Footprint not found)
pins: 0 GND, 1 EN, 2 GND, 3 PG, 4 VO, 5 NC, 6 VI

## LED2
designator LD?, comment Green
Typical RED, GREEN, YELLOW, AMBER GaAs LED; Published: 8-Jun-2000; Revision: July-2002: Re-released for DXP Platform.; Publisher: Altium Limited
footprint D0603 (Footprint not found)
footprint 0603D-G (Footprint not found)
pins: 1 A, 2 K

## LED2_1
designator LD?, comment Red
Typical RED, GREEN, YELLOW, AMBER GaAs LED; Published: 8-Jun-2000; Revision: July-2002: Re-released for DXP Platform.; Publisher: Altium Limited
footprint D0603 (Footprint not found)
footprint 0603D-R (Footprint not found)
pins: 1 A, 2 K

## LED2_2
designator LD?, comment Blue
Typical RED, GREEN, YELLOW, AMBER GaAs LED; Published: 8-Jun-2000; Revision: July-2002: Re-released for DXP Platform.; Publisher: Altium Limited
footprint D0603 (Footprint not found)
footprint 0603D-B (Footprint not found)
pins: 1 A, 2 K

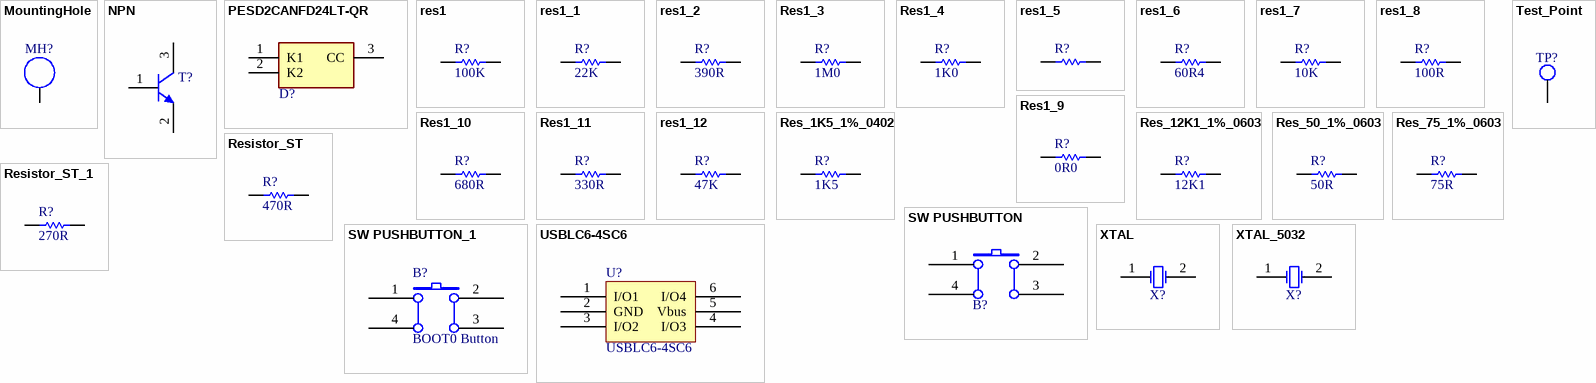
[diagram p1: symbols MountingHole to XTAL_5032]

## MountingHole
designator MH?, comment Mounting Hole  (value not drawn)  (no BOM)
footprint MountingHole_3.5mm
pins: 1

## NPN
designator T?, comment MMBTA05LT3G  (value not drawn)
NPN Bipolar Transistor; Code - JEDEC: TO-226-AA; Published: 8-Jun-2000; Revision: July-2002: Re-released for DXP Platform.; Publisher: Altium Limited
footprint BCY-W3 (TO, Flat Index; 3 In-Line, Axial Leads; Body Dia. 4.8mm)
simulation model NPN
signal-integrity model NPN
footprint SOT-23
footprint SOT23-213 (Footprint not found)
pins: 1 B, 2 E, 3 C

## PESD2CANFD24LT-QR
designator D?  (value not drawn)
vp_PESD2CANFD24LT-Q - ESD protection for In-vehicle networks@en-us; Manufacturer_Name: Nexperia; Geometry.Height: 1.1mm; Manufacturer_Part_Number: PESD2CANFD24LT-QR; Mouser Part Number: 771-PESD2CANFD24LTQR; Mouser Price/Stock: https://www.mouser.co.uk/ProductDetail/Nexperia/PESD2CANFD24LT-QR?qs=vvQtp7zwQdPkdQ8USTElVw%3D%3D; Arrow Part Number: PESD2CANFD24LT-QR; Arrow Price/Stock: https://www.arrow.com/en/products/pesd2canfd24lt-qr/nexperia?utm_currency=USD&region=europe; Datasheet Link: https://assets.nexperia.com/documents/data-sheet/PESD2CANFD24LT-Q.pdf
footprint SOT95P230X110-3N
pins: 1 K1, 2 K2, 3 CC

## res1
designator R?, comment 100K
Resistor; Published: 8-Jun-2000; Revision: July-2002: Re-released for DXP Platform.; Publisher: Altium Limited; Value: 100K
footprint AXIAL-0.3 (Resistor; 2 Leads)
simulation model RESISTOR (Resistor)
signal-integrity model Res
footprint 0603
footprint 0603R
pins: 1, 2
1 alternate drawing of the same symbol

## res1_1
designator R?, comment 22K
Resistor; Published: 8-Jun-2000; Revision: July-2002: Re-released for DXP Platform.; Publisher: Altium Limited; Value: 22K
footprint AXIAL-0.3 (Resistor; 2 Leads)
simulation model RESISTOR (Resistor)
signal-integrity model Res
footprint 0603
footprint 0603R
pins: 1, 2
1 alternate drawing of the same symbol

## res1_2
designator R?, comment 390R
Resistor; Published: 8-Jun-2000; Revision: July-2002: Re-released for DXP Platform.; Publisher: Altium Limited; Value: 390R
footprint AXIAL-0.3 (Resistor; 2 Leads)
simulation model RESISTOR (Resistor)
signal-integrity model Res
footprint 0603
footprint 0603R
pins: 1, 2
1 alternate drawing of the same symbol

## Res1_3
designator R?, comment 1M0
Resistor; Ordered by: Subcon; Published: 8-Jun-2000; Revision: July-2002: Re-released for DXP Platform.; Publisher: Altium Limited; Value: 1M0
footprint AXIAL-0.3
footprint 0603
footprint 0603R
footprint 0402R
pins: 1, 2
2 alternate drawings of the same symbol

## Res1_4
designator R?, comment 1K0
Resistor; Published: 8-Jun-2000; Revision: July-2002: Re-released for DXP Platform.; Publisher: Altium Limited; Value: 1K0
footprint AXIAL-0.3 (Resistor; 2 Leads)
simulation model RESISTOR (Resistor)
signal-integrity model Res
footprint 0603
footprint 0805
footprint 0402R
footprint 0603R
pins: 1, 2
1 alternate drawing of the same symbol

## res1_5
designator R?, comment 33R  (value not drawn)
Resistor; Tolerance: 1%; Published: 8-Jun-2000; Revision: July-2002: Re-released for DXP Platform.; Publisher: Altium Limited; Value: 33R
footprint AXIAL-0.3 (Resistor; 2 Leads)
simulation model RESISTOR (Resistor)
signal-integrity model Res
footprint 0603
footprint 0603R
pins: 1, 2
1 alternate drawing of the same symbol

## res1_6
designator R?, comment 60R4
Resistor; Published: 8-Jun-2000; Revision: July-2002: Re-released for DXP Platform.; Publisher: Altium Limited; Value: 60R4; Supplier 1: Farnell; Supplier Part Number 1: CRCW060360R4FKTA
footprint AXIAL-0.3 (Resistor; 2 Leads)
simulation model RESISTOR (Resistor)
signal-integrity model Res
footprint 0603
footprint 0603R (Footprint not found)
pins: 1, 2
1 alternate drawing of the same symbol

## res1_7
designator R?, comment 10K
Resistor; Published: 8-Jun-2000; Revision: July-2002: Re-released for DXP Platform.; Publisher: Altium Limited; Value: 10K
footprint AXIAL-0.3 (Resistor; 2 Leads)
simulation model RESISTOR (Resistor)
signal-integrity model Res
footprint 0603
footprint 0603R
pins: 1, 2
1 alternate drawing of the same symbol

## res1_8
designator R?, comment 100R
Resistor; Published: 8-Jun-2000; Revision: July-2002: Re-released for DXP Platform.; Publisher: Altium Limited; Value: 100R
footprint AXIAL-0.3 (Resistor; 2 Leads)
simulation model RESISTOR (Resistor)
signal-integrity model Res
footprint 0603
footprint 0603R
pins: 1, 2
1 alternate drawing of the same symbol

## Res1_9
designator R?, comment 0R0
Resistor; Value: 1K; Published: 8-Jun-2000; Revision: July-2002: Re-released for DXP Platform.; Publisher: Altium Limited
footprint AXIAL-0.3 (Resistor; 2 Leads)
simulation model RESISTOR (Resistor)
signal-integrity model Res
footprint 0603
footprint 0805
footprint 0603R
pins: 1, 2
1 alternate drawing of the same symbol

## Res1_10
designator R?, comment 680R
Resistor; Published: 8-Jun-2000; Revision: July-2002: Re-released for DXP Platform.; Publisher: Altium Limited; Value: 680R
footprint AXIAL-0.3 (Resistor; 2 Leads)
simulation model RESISTOR (Resistor)
signal-integrity model Res
footprint 0603
footprint 0805
footprint 0402R
footprint 0603R
pins: 1, 2
1 alternate drawing of the same symbol

## Res1_11
designator R?, comment 330R
Resistor; Published: 8-Jun-2000; Revision: July-2002: Re-released for DXP Platform.; Publisher: Altium Limited; Value: 330R
footprint AXIAL-0.3 (Resistor; 2 Leads)
simulation model RESISTOR (Resistor)
signal-integrity model Res
footprint 0603
footprint 0805
footprint 0603R
pins: 1, 2
1 alternate drawing of the same symbol

## res1_12
designator R?, comment 47K
Resistor; Published: 8-Jun-2000; Revision: July-2002: Re-released for DXP Platform.; Publisher: Altium Limited; Value: 47K
footprint AXIAL-0.3 (Resistor; 2 Leads)
footprint 0805
footprint 0603
footprint 0603R
footprint 0603R
pins: 1, 2
1 alternate drawing of the same symbol

## Res_1K5_1%_0402
designator R?, comment 1K5
Resistor,1K5,0402,1%,YAGEO; Manuf_Part_1: RC0402FR-071K5L; Value: 1K5; Manuf_1: YAGEO; Order: RC0402FR-071K5L; ECCN_US/EU: n/a; Distrib: FARNELL
footprint 0402R
footprint 0603R
footprint 0805R (Footprint not found)
footprint 0603R-GS
footprint 1206R (Footprint not found)
pins: 1, 2

## Res_12K1_1%_0603
designator R?, comment 12K1
Resistor,12K1,0603,1%,VISHAY; Manuf_Part_1: MCT 0603-50 1% P5 12K1; Order: 2325243; Value: 12K1; ECCN_US/EU: n/a; Manuf_1: VISHAY; Distrib: FARNELL
footprint 0603R
footprint 0603R-GS
pins: 1, 2

## Res_50_1%_0603
designator R?, comment 50R
Resistor,50,0603,1%,YAGEO; Manuf_Part_1: RC0402FR-0750RL; Value: 50R; Manuf_1: YAGEO; Order: *; ECCN_US/EU: n/a; Distrib: FARNELL
footprint 0402R
footprint 0603R
footprint 0805R (Footprint not found)
footprint 0603R-GS
footprint 1206R (Footprint not found)
pins: 1, 2

## Res_75_1%_0603
designator R?, comment 75R
Resistor; Manuf_Part_1: RC0402FR-0750RL; Manuf_1: YAGEO; Tolerance: 1%; Value: 75R; Order: *; ECCN_US/EU: n/a; Distrib: FARNELL
footprint 0402R
footprint 0603R
footprint 0805R (Footprint not found)
footprint 0603R-GS
footprint 1206R (Footprint not found)
pins: 1, 2

## Resistor_ST
designator R?, comment 470R
Resistor 0402 / 0603 / 0805; Value: 470R
footprint 0402R
footprint 0603R
footprint 0805R (Footprint not found)
footprint 0603R-GS
pins: 1, 2

## Resistor_ST_1
designator R?, comment 270R
Resistor 0402 / 0603 / 0805; Value: 270R
footprint 0402R
footprint 0603R
footprint 0805R (Footprint not found)
footprint 0603R-GS
pins: 1, 2

## SW PUSHBUTTON
designator B?, comment TS40-66-33-BK-160-SMT-TR  (value not drawn)
SE PUSHBUTTON
footprint PB (Footprint not found)
footprint PB10
footprint BP1CMS
footprint PB-6X6mm-Black (Footprint not found)
pins: 1 A0, 2 B0, 3 B1, 4 A1

## SW PUSHBUTTON_1
designator B?, comment BOOT0 Button
SE PUSHBUTTON
footprint PB (Footprint not found)
footprint BP1CMS
footprint PB10 (Footprint not found)
footprint PB-6X6mm-Blue (Footprint not found)
pins: 1 A0, 2 B0, 3 B1, 4 A1

## Test_Point
designator TP?, comment Test Point  (value not drawn)  (no BOM)
footprint TP_SMD_0.8
pins: 1

## USBLC6-4SC6
designator U?
footprint SOT23-6L (Footprint not found)
pins: 1 I/O1, 2 GND, 3 I/O2, 4 I/O3, 5 Vbus, 6 I/O4

## XTAL
designator X?, comment ABM8AAIG-8.000MHz-V2R-T3  (value not drawn)
Crystal Oscillator; Published: 8-Jun-2000; LatestRevisionDate: 17-Jul-2002; LatestRevisionNote: Re-released for DXP Platform.; PackageReference: R38; Publisher: Altium Limited
footprint R38
footprint XTAL1
footprint HOSC-L500HW320H105-4_V (Quartz Crystal, Body 5.0 x 3.2 mm, Height 1.05mm)
footprint NDK_NX3225GD (NDK 8M Hz  3.2 x 2.5 mm)
footprint XTAL_3225 (Footprint not found)
footprint OSC_2SM_3R2x2R5 (Footprint not found)
pins: 1 OSC1, 2 OSC2
2 alternate drawings of the same symbol

## XTAL_5032
designator X?, comment ECS-250-12-30Q-JES-TR  (value not drawn)
Crystal Oscillator; Published: 8-Jun-2000; LatestRevisionDate: 17-Jul-2002; LatestRevisionNote: Re-released for DXP Platform.; PackageReference: R38; Publisher: Altium Limited
footprint R38
footprint XTAL1
footprint HOSC-L500HW320H105-4_V (Quartz Crystal, Body 5.0 x 3.2 mm, Height 1.05mm)
footprint NDK_NX3225GD (NDK 8M Hz  3.2 x 2.5 mm)
footprint XTAL_5032 (Footprint not found)
footprint XTAL_2SM_5R0X3R2 (Footprint not found)
pins: 1 OSC1, 2 OSC2
2 alternate drawings of the same symbol